# Altium footprint library 高通MSM8916 原理图+PCB Layout_QRD8916_2-4-2_half type_main board_V1.01.PcbLib: 113 footprints (part 6 of 8)
Each footprint in its own frame and in the unit in brackets; x right, y up, seen from the top. Pads: shape width x height; smd on the part's side, far side on the other; paste and mask are expansions set on the pad; w line width, h text height; cw(c..) or ccw(c..) is an arc to the next point about the centre after c.
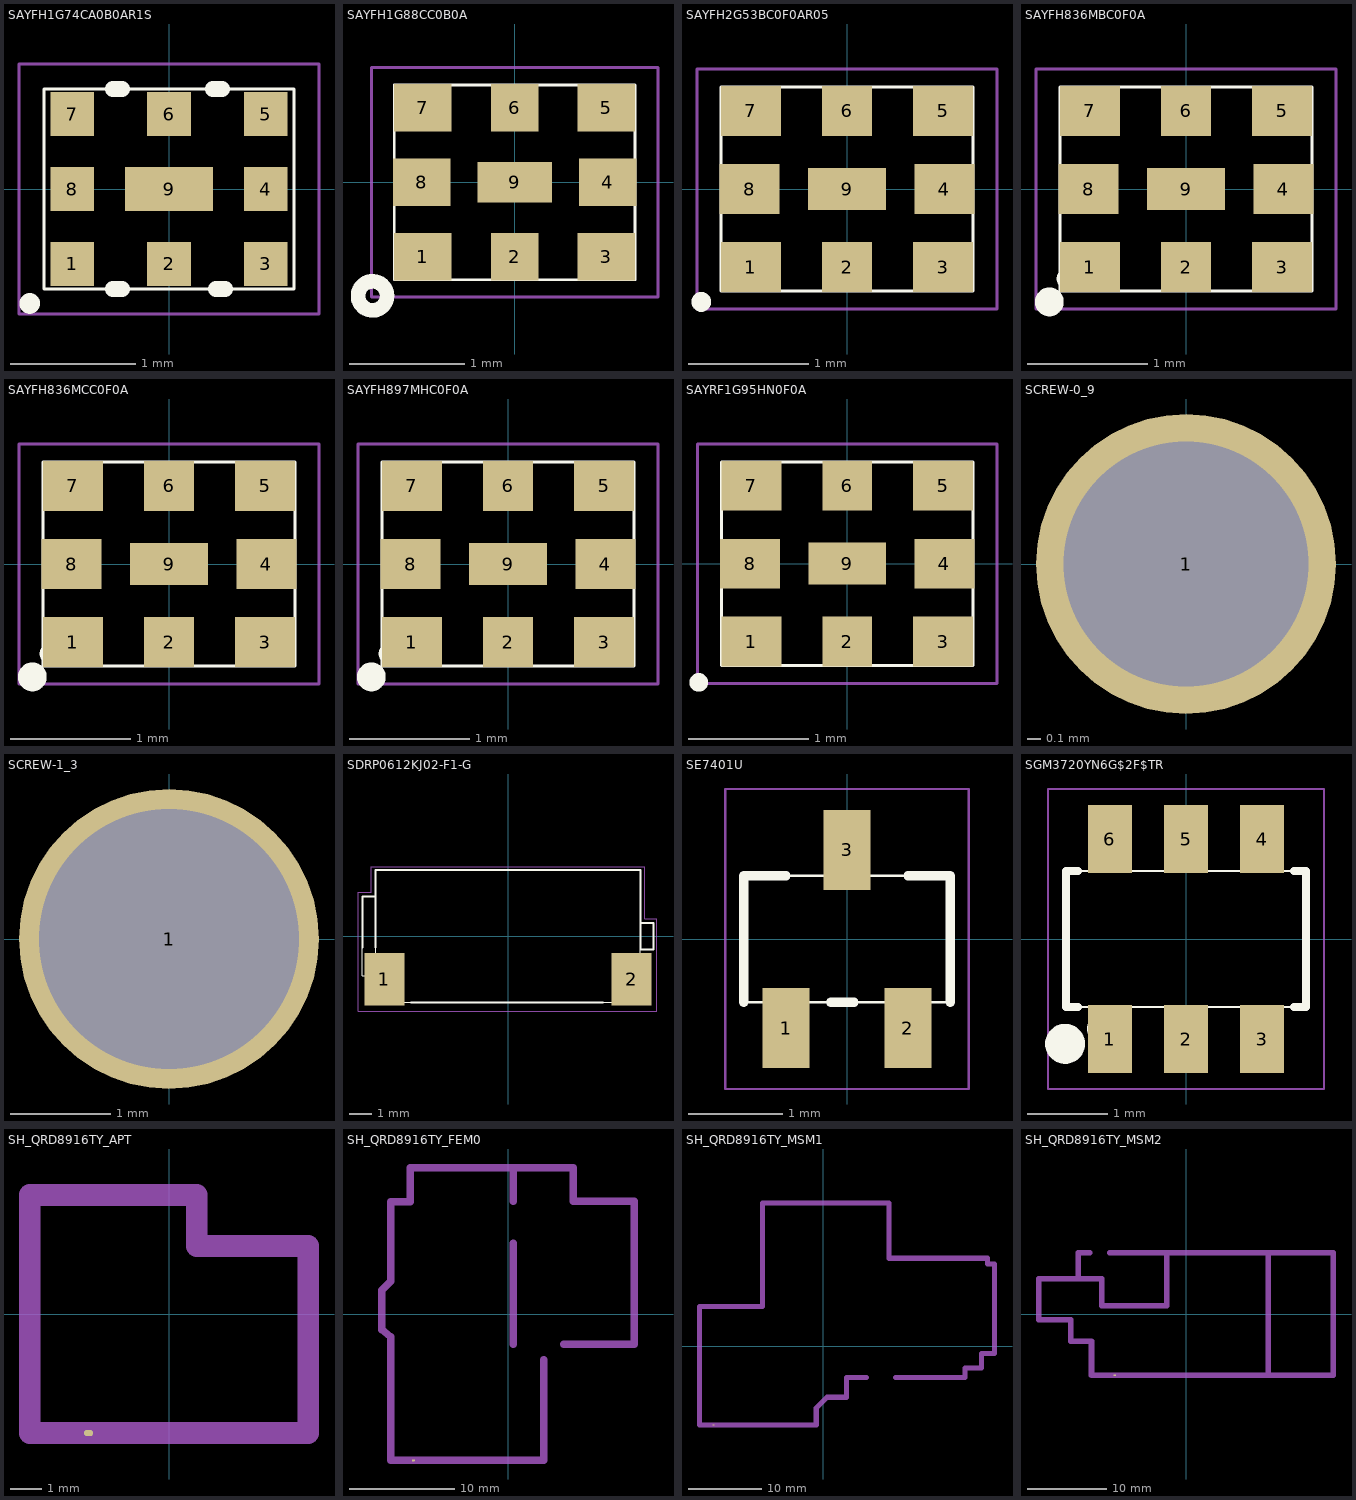
[diagram p5: the footprints below, top view; thin cyan lines are the x and y axes]

## SAYFH1G74CA0B0AR1S [mm]
height 0.6
pads (9):
  rrect0% 0.35x0.35 smd paste-0.025 mask+0.05: 1(-0.775,-0.6) 2(0,-0.6) 3(0.775,-0.6) 4(0.775,0) 5(0.775,0.6) 6(0,0.6) 7(-0.775,0.6) 8(-0.775,0)
  rect 0.7x0.35 smd mask+0.05: 9(0,0)
Top Overlay:
  circle w0.025: c-0.862,-0.672 r0.066
  circle w0.127: c-1.114,-0.916 r0.019
  lines w0.025: -1,-0.8 1,-0.8 1,0.8 -1,0.8 -1,-0.8
  lines w0.127: -0.45,-0.8 -0.375,-0.8 ; -0.45,0.8 -0.375,0.8 ; 0.35,0.8 0.425,0.8 ; 0.375,-0.8 0.45,-0.8
Top Assembly:
  lines w0.025: -1.2,-1 1.2,-1 1.2,1 -1.2,1 -1.2,-1

## SAYFH1G88CC0B0A [mm]
height 0.6
pads (9):
  rect 0.5x0.415 smd mask+0.05: 1(-0.8,-0.65) 3(0.8,-0.65) 4(0.81,0) 5(0.8,0.65) 7(-0.8,0.65) 8(-0.81,0)
  rrect0% 0.415x0.415 smd mask+0.05: 2(0,-0.65) 6(0,0.65)
  rect 0.65x0.35 smd mask+0.05: 9(0,0)
Top Overlay:
  circle w0.025: c-0.887,-0.647 r0.078
  circle w0.127: c-1.239,-0.991 r0.127
  lines w0.025: -1.05,-0.85 1.05,-0.85 1.05,0.85 -1.05,0.85 -1.05,-0.85
Top Assembly:
  lines w0.025: -1.25,-1 1.25,-1 1.25,1 -1.25,1 -1.25,-1

## SAYFH2G53BC0F0AR05 [mm]
height 0.6
pads (9):
  rect 0.5x0.415 smd mask+0.05: 1(-0.8,-0.65) 3(0.8,-0.65) 4(0.81,0) 5(0.8,0.65) 7(-0.8,0.65) 8(-0.81,0)
  rrect0% 0.415x0.415 smd mask+0.05: 2(0,-0.65) 6(0,0.65)
  rect 0.65x0.35 smd mask+0.05: 9(0,0)
Top Overlay:
  circle w0.025: c-0.812,-0.647 r0.078
  circle w0.127: c-1.214,-0.941 r0.019
  lines w0.025: -1.05,-0.85 1.05,-0.85 1.05,0.85 -1.05,0.85 -1.05,-0.85
Top Assembly:
  lines w0.025: -1.25,-1 1.25,-1 ; -1.25,-1 -1.25,1 ; -1.25,-1 1.25,-1 ; -1.25,-1 -1.25,1 ; -1.25,1 1.25,1 ; -1.25,1 1.25,1 ; 1.25,-1 1.25,1 ; 1.25,-1 1.25,1

## SAYFH836MBC0F0A [mm]
height 0.6
pads (9):
  rect 0.5x0.415 smd mask+0.05: 1(-0.8,-0.65) 3(0.8,-0.65) 4(0.81,0) 5(0.8,0.65) 7(-0.8,0.65) 8(-0.81,0)
  rrect0% 0.415x0.415 smd mask+0.05: 2(0,-0.65) 6(0,0.65)
  rect 0.65x0.35 smd mask+0.05: 9(0,0)
Top Overlay:
  circle w0.025: c-0.987,-0.747 r0.078
  circle w0.127: c-1.139,-0.941 r0.057
  lines w0.025: -1.05,-0.85 1.05,-0.85 1.05,0.85 -1.05,0.85 -1.05,-0.85
Top Assembly:
  lines w0.025: -1.25,-1 1.25,-1 1.25,1 -1.25,1 -1.25,-1
Mechanical 9:
  lines w0.025: -1.25,-1 1.25,-1 1.25,1 -1.25,1 -1.25,-1

## SAYFH836MCC0F0A [mm]
height 0.6
pads (9):
  rect 0.5x0.415 smd mask+0.05: 1(-0.8,-0.65) 3(0.8,-0.65) 4(0.81,0) 5(0.8,0.65) 7(-0.8,0.65) 8(-0.81,0)
  rrect0% 0.415x0.415 smd mask+0.05: 2(0,-0.65) 6(0,0.65)
  rect 0.65x0.35 smd mask+0.05: 9(0,0)
Top Overlay:
  circle w0.025: c-0.987,-0.747 r0.078
  circle w0.127: c-1.139,-0.941 r0.057
  lines w0.025: -1.05,-0.85 1.05,-0.85 1.05,0.85 -1.05,0.85 -1.05,-0.85
Top Assembly:
  lines w0.025: -1.25,-1 1.25,-1 1.25,1 -1.25,1 -1.25,-1
Mechanical 9:
  lines w0.025: -1.25,-1 1.25,-1 1.25,1 -1.25,1 -1.25,-1

## SAYFH897MHC0F0A [mm]
height 0.6
pads (9):
  rect 0.5x0.415 smd mask+0.05: 1(-0.8,-0.65) 3(0.8,-0.65) 4(0.81,0) 5(0.8,0.65) 7(-0.8,0.65) 8(-0.81,0)
  rrect0% 0.415x0.415 smd mask+0.05: 2(0,-0.65) 6(0,0.65)
  rect 0.65x0.35 smd mask+0.05: 9(0,0)
Top Overlay:
  circle w0.025: c-0.987,-0.747 r0.078
  circle w0.127: c-1.139,-0.941 r0.057
  lines w0.025: -1.05,-0.85 1.05,-0.85 1.05,0.85 -1.05,0.85 -1.05,-0.85
Top Assembly:
  lines w0.025: -1.25,-1 1.25,-1 1.25,1 -1.25,1 -1.25,-1
Mechanical 9:
  lines w0.025: -1.25,-1 1.25,-1 1.25,1 -1.25,1 -1.25,-1

## SAYRF1G95HN0F0A [mm]
height 0.6
pads (9):
  rect 0.5x0.415 smd mask+0.05: 1(-0.8,-0.65) 3(0.8,-0.65) 4(0.81,0) 5(0.8,0.65) 7(-0.8,0.65) 8(-0.81,0)
  rrect0% 0.415x0.415 smd mask+0.05: 2(0,-0.65) 6(0,0.65)
  rect 0.65x0.35 smd mask+0.05: 9(0,0)
Top Overlay:
  circle w0.025: c-0.887,-0.647 r0.078
  circle w0.127: c-1.239,-0.991 r0.014
  lines w0.025: -1.05,-0.85 1.05,-0.85 1.05,0.85 -1.05,0.85 -1.05,-0.85
Top Assembly:
  lines w0.025: -1.25,-1 1.25,-1 1.25,1 -1.25,1 -1.25,-1

## SCREW-0_9 [mm]
pads (1):
  round 2.2 hole 1.8 mask+0.1: 1(0,0)

## SCREW-1_3 [mm]
pads (1):
  round 3 hole 2.6 mask+0.1: 1(0,0)

## SDRP0612KJ02-F1-G [mm]
height 2.3
pads (2):
  rect 1.8x2.4 smd mask+0.05: 1(-5.6,-1.95) 2(5.6,-1.95)
Top Overlay:
  lines w0.025: -6,-1.8 -6.6,-1.8 -6.6,1.8 -6,1.8 ; 6,-0.6 6.6,-0.6 6.6,0.6 6,0.6 ; -6,-3 6,-3 6,3 -6,3 -6,-3
  lines w0.1: -6.6,-0.5 -6.6,1.8 -6,1.8 ; -6,-0.5 -6,3 6,3 6,-0.55 ; -4.4,-3 4.3,-3 ; 6,-0.6 6.6,-0.6 6.6,0.6 6,0.6
Top Assembly:
  lines w0.025: -6.8,-3.4 -6.8,2 -6.2,2 -6.2,3.15 6.2,3.15 6.2,0.8 6.75,0.8 6.75,-3.4 -6.8,-3.4

## SE7401U [mm]
height 1.1
pads (3):
  rect 0.5x0.85 smd paste-0.025 mask+0.05: 1(-0.65,-0.95) 2(0.65,-0.95) 3(0,0.95)
Top Overlay:
  lines w0.025: -1.1,-0.675 -1.1,0.675 1.1,0.675 1.1,-0.675 -1.1,-0.675
  lines w0.1: -1.1,-0.675 -1.1,0.675 -0.65,0.675 ; -0.175,-0.675 0.075,-0.675 ; 0.65,0.675 1.1,0.675 1.1,-0.675
Top Assembly:
  lines w0.025: -1.3,-1.6 -1.3,1.6 1.3,1.6 1.3,-1.6 -1.3,-1.6

## SGM3720YN6G$2F$TR [mm]
height 1.25
pads (6):
  rect 0.55x0.85 smd mask+0.05: 1(-0.95,-1.25) 2(0,-1.25) 3(0.95,-1.25) 4(0.95,1.25) 5(0,1.25) 6(-0.95,1.25)
Top Overlay:
  circle w0.3: c-1.51,-1.31 r0.1
  circle w0.025: c-0.96,-1.12 r0.264
  lines w0.025: -1.5,-0.85 -1.5,0.85 1.5,0.85 1.5,-0.85 -1.5,-0.85
  lines w0.1: -1.35,-0.85 -1.5,-0.85 -1.5,0.85 -1.35,0.85 ; 1.35,-0.85 1.5,-0.85 1.5,0.85 1.35,0.85
Top Assembly:
  lines w0.025: -1.725,-1.875 -1.725,1.875 1.725,1.875 1.725,-1.875 -1.725,-1.875

## SH_QRD8916TY_APT [mm]
pads (1):
  oval 0.3x0.2 smd: 1(-2.6,-3.85)
Top Paste:
  region: -1,-4.2 -4,-4.2 -4,-3.5 -1,-3.5
  region: 4,-4.2 1,-4.2 1,-3.5 4,-3.5
  region: 4.15,-2.1 4.15,0.9 4.85,0.9 4.85,-2.1
  region: -3.5,4.2 -0.5,4.2 -0.5,3.5 -3.5,3.5
  region: 4.05,1.85 1.05,1.85 1.05,2.55 4.05,2.55
  region: -4.85,0.504 -4.85,2.845 -4.15,2.845 -4.15,0.504
  region: -4.85,-2.845 -4.85,-0.502 -4.15,-0.502 -4.15,-2.845
Top Solder:
  region: -1,-4.2 -4,-4.2 -4,-3.5 -1,-3.5
  region: 4,-4.2 1,-4.2 1,-3.5 4,-3.5
  region: 4.15,-2.1 4.15,0.9 4.85,0.9 4.85,-2.1
  region: -3.5,4.2 -0.5,4.2 -0.5,3.5 -3.5,3.5
  region: 4.05,1.85 1.05,1.85 1.05,2.55 4.05,2.55
  region: -4.85,0.508 -4.85,2.845 -4.15,2.845 -4.15,0.508
  region: -4.85,-2.845 -4.85,-0.502 -4.15,-0.502 -4.15,-2.845
Top Assembly:
  lines w0.7: -4.5,-3.85 -4.5,3.85 0.9,3.85 0.9,2.2 4.5,2.2 4.5,-3.85 -4.5,-3.85

## SH_QRD8916TY_FEM0 [mm]
pads (1):
  oval 0.3x0.2 smd: 1(-9,-13.912)
Top Paste:
  region: -0.5,-13.563 2.5,-13.563 2.5,-14.263 -0.5,-14.263
  region: -5.5,-13.563 -2.5,-13.563 -2.5,-14.263 -5.5,-14.263
  region: -10.5,-13.563 -7.5,-13.563 -7.5,-14.263 -10.5,-14.263
  region: -11.513,-7 -11.513,-4 -10.813,-4 -10.813,-7
  region: -11.513,-12 -11.513,-9 -10.813,-9 -10.813,-12
  region: -12.363,-1.1 -12.363,1.9 -11.663,1.9 -11.663,-1.1
  region: 3.038,-7.8 3.038,-4.8 3.738,-4.8 3.738,-7.8
  region: 3.038,-12.8 3.038,-9.8 3.738,-9.8 3.738,-12.8
  region: 6.6,-2.538 9.6,-2.538 9.6,-3.238 6.6,-3.238
  region: 11.663,7.3 11.663,10.3 12.363,10.3 12.363,7.3
  region: 11.663,2.3 11.663,5.3 12.363,5.3 12.363,2.3
  region: 11.663,-2.7 11.663,0.3 12.363,0.3 12.363,-2.7
  region: 0.138,-2.5 0.138,0.5 0.838,0.5 0.838,-2.5
  region: 7.5,11.063 10.5,11.063 10.5,10.363 7.5,10.363
  region: -3.5,14.263 -0.5,14.263 -0.5,13.563 -3.5,13.563
  region: -8.5,14.263 -5.5,14.263 -5.5,13.563 -8.5,13.563
  region: 2,14.263 5,14.263 5,13.563 2,13.563
  region: -9.64,10.753 -9.64,13.147 -8.94,13.147 -8.94,10.753
  region: 0.14,10.703 0.14,13.097 0.84,13.097 0.84,10.703
  region: 5.86,11.103 5.86,13.497 6.56,13.497 6.56,11.103
  region: 0.138,2.5 0.138,6.675 0.838,6.675 0.838,2.5
  region: -11.513,4 -11.513,9 -10.813,9 -10.813,4
Top Solder:
  region: -10.5,-13.563 -7.5,-13.563 -7.5,-14.263 -10.5,-14.263
  region: -5.5,-13.563 -2.5,-13.563 -2.5,-14.263 -5.5,-14.263
  region: -0.5,-13.563 2.5,-13.563 2.5,-14.263 -0.5,-14.263
  region: -11.513,-12 -11.513,-9 -10.813,-9 -10.813,-12
  region: -11.513,-7 -11.513,-4 -10.813,-4 -10.813,-7
  region: -12.363,-1.1 -12.363,1.9 -11.663,1.9 -11.663,-1.1
  region: 3.038,-12.8 3.038,-9.8 3.738,-9.8 3.738,-12.8
  region: 3.038,-7.8 3.038,-4.8 3.738,-4.8 3.738,-7.8
  region: 6.6,-2.538 9.6,-2.538 9.6,-3.238 6.6,-3.238
  region: 11.663,-2.7 11.663,0.3 12.363,0.3 12.363,-2.7
  region: 11.663,2.3 11.663,5.3 12.363,5.3 12.363,2.3
  region: 11.663,7.3 11.663,10.3 12.363,10.3 12.363,7.3
  region: 0.138,-2.5 0.138,0.5 0.838,0.5 0.838,-2.5
  region: 7.5,11.063 10.5,11.063 10.5,10.363 7.5,10.363
  region: -8.5,14.263 -5.5,14.263 -5.5,13.563 -8.5,13.563
  region: -3.5,14.263 -0.5,14.263 -0.5,13.563 -3.5,13.563
  region: 2,14.263 5,14.263 5,13.563 2,13.563
  region: -9.64,10.753 -9.64,13.147 -8.94,13.147 -8.94,10.753
  region: 0.14,10.703 0.14,13.097 0.84,13.097 0.84,10.703
  region: 5.86,11.103 5.86,13.497 6.56,13.497 6.56,11.103
  region: 0.138,2.5 0.138,6.7 0.838,6.7 0.838,2.5
  region: -11.513,4 -11.513,9 -10.813,9 -10.813,4
Top Assembly:
  lines w0.7: 0.487,-2.887 0.487,6.713 ; 0.487,10.713 0.487,13.812 ; 3.387,-4.363 3.387,-13.912 -11.162,-13.912 -11.162,-2.163 -12.013,-1.488 -12.013,2.256 -11.162,3.106 -11.162,10.687 -9.287,10.687 -9.287,13.912 6.212,13.912 6.212,10.713 12.013,10.713 12.013,-2.887 5.312,-2.887

## SH_QRD8916TY_MSM1 [mm]
pads (1):
  oval 0.3x0.2 smd: 1(-15,-10.795)
Top Paste:
  region: -5.5,-10.45 -2.5,-10.45 -2.5,-11.15 -5.5,-11.15
  region: -10.5,-10.45 -7.5,-10.45 -7.5,-11.15 -10.5,-11.15
  region: -15.5,-10.45 -12.5,-10.45 -12.5,-11.15 -15.5,-11.15
  region: -17.25,-8.8 -17.25,-5.8 -16.55,-5.8 -16.55,-8.8
  region: -17.25,-3.8 -17.25,-0.8 -16.55,-0.8 -16.55,-3.8
  region: -17.25,1.2 -17.25,4.2 -16.55,4.2 -16.55,1.2
  region: 3.2,-3.95 6,-3.95 6,-4.65 3.2,-4.65
  region: 0.6,-6.65 3.2,-6.65 3.2,-7.35 0.6,-7.35
  region: 15,-3.95 18,-3.95 18,-4.65 15,-4.65
  region: 10,-3.95 13,-3.95 13,-4.65 10,-4.65
  region: -1.3,-10.3 -1.3,-8.7 -0.6,-8.7 -0.6,-10.3
  region: 19.65,-2.65 21.35,-2.65 21.35,-3.35 19.65,-3.35
  region: -11.8,5.75 -8.8,5.75 -8.8,5.05 -11.8,5.05
  region: -16.8,5.75 -13.8,5.75 -13.8,5.05 -16.8,5.05
  region: 18.5,12.35 21.5,12.35 21.5,11.65 18.5,11.65
  region: 13.5,12.35 16.5,12.35 16.5,11.65 13.5,11.65
  region: 9.5,12.35 11.9,12.35 11.9,11.65 9.5,11.65
  region: -6,19.9 -3,19.9 -3,19.2 -6,19.2
  region: -1,19.9 2,19.9 2,19.2 -1,19.2
  region: 4,19.9 7,19.9 7,19.2 4,19.2
  region: 8.65,15 8.65,18 9.35,18 9.35,15
  region: 23.05,3.5 23.05,6.5 23.75,6.5 23.75,3.5
  region: -8.63,14 -8.63,17.5 -7.93,17.5 -7.93,14
  region: -8.63,8.5 -8.63,12 -7.93,12 -7.93,8.5
  region: 23.05,-1.35 23.05,1.8 23.75,1.8 23.75,-1.35
  region: 23.05,8.2 23.05,11.525 23.75,11.525 23.75,8.2
Top Solder:
  region: -15.5,-10.45 -12.5,-10.45 -12.5,-11.15 -15.5,-11.15
  region: -10.5,-10.45 -7.5,-10.45 -7.5,-11.15 -10.5,-11.15
  region: -5.5,-10.45 -2.5,-10.45 -2.5,-11.15 -5.5,-11.15
  region: -17.25,-8.8 -17.25,-5.8 -16.55,-5.8 -16.55,-8.8
  region: -17.25,-3.8 -17.25,-0.8 -16.55,-0.8 -16.55,-3.8
  region: -17.25,1.2 -17.25,4.2 -16.55,4.2 -16.55,1.2
  region: 3.2,-3.95 6,-3.95 6,-4.65 3.2,-4.65
  region: 0.6,-6.65 3.2,-6.65 3.2,-7.35 0.6,-7.35
  region: 15,-3.95 18,-3.95 18,-4.65 15,-4.65
  region: 10,-3.95 13,-3.95 13,-4.65 10,-4.65
  region: -1.3,-10.3 -1.3,-8.7 -0.6,-8.7 -0.6,-10.3
  region: 19.65,-2.65 21.35,-2.65 21.35,-3.35 19.65,-3.35
  region: -16.8,5.75 -13.8,5.75 -13.8,5.05 -16.8,5.05
  region: -11.8,5.75 -8.8,5.75 -8.8,5.05 -11.8,5.05
  region: 18.5,12.35 21.5,12.35 21.5,11.65 18.5,11.65
  region: 13.5,12.35 16.5,12.35 16.5,11.65 13.5,11.65
  region: 9.5,12.35 11.9,12.35 11.9,11.65 9.5,11.65
  region: -6,19.9 -3,19.9 -3,19.2 -6,19.2
  region: -1,19.9 2,19.9 2,19.2 -1,19.2
  region: 4,19.9 7,19.9 7,19.2 4,19.2
  region: 8.65,15 8.65,18 9.35,18 9.35,15
  region: 23.05,3.5 23.05,6.5 23.75,6.5 23.75,3.5
  region: -8.63,14 -8.63,17.5 -7.93,17.5 -7.93,14
  region: -8.63,8.5 -8.63,12 -7.93,12 -7.93,8.5
  region: 23.05,-1.35 23.05,1.8 23.75,1.8 23.75,-1.35
  region: 23.05,8.2 23.05,11.525 23.75,11.525 23.75,8.2
Top Assembly:
  lines w0.7: -0.95,-10.8 -16.9,-10.8 -16.9,5.4 -8.275,5.4 -8.275,19.55 9,19.55 9,12 22.475,12 22.475,11.2 23.4,11.2 23.4,-1 21.625,-1 21.625,-3 19.4,-3 19.4,-4.3 9.9,-4.3 ; -0.95,-10.725 -0.95,-8.475 0.525,-7 3.2,-7 3.2,-4.3 5.9,-4.3

## SH_QRD8916TY_MSM2 [mm]
pads (1):
  oval 0.3x0.2 smd: 1(-9,-7.725)
Top Paste:
  region: 18.225,-6.2 18.225,-3.2 18.925,-3.2 18.925,-6.2
  region: 18.225,-1.2 18.225,1.8 18.925,1.8 18.925,-1.2
  region: 18.225,3.8 18.225,6.8 18.925,6.8 18.925,3.8
  region: 10.015,-6.5 10.015,-3.5 10.715,-3.5 10.715,-6.5
  region: 10.015,-1.5 10.015,1.5 10.715,1.5 10.715,-1.5
  region: 14.2,8.075 17.2,8.075 17.2,7.375 14.2,7.375
  region: 9.2,8.075 12.2,8.075 12.2,7.375 9.2,7.375
  region: 3.5,8.075 6.5,8.075 6.5,7.375 3.5,7.375
  region: -5.706,8.075 -3.174,8.075 -3.174,7.375 -5.706,7.375
  region: -9.626,8.075 -7.094,8.075 -7.094,7.375 -9.626,7.375
  region: 13.85,-7.375 16.85,-7.375 16.85,-8.075 13.85,-8.075
  region: 8.85,-7.375 11.85,-7.375 11.85,-8.075 8.85,-8.075
  region: 3.15,-7.375 6.15,-7.375 6.15,-8.075 3.15,-8.075
  region: -10.226,-7.375 -7.694,-7.375 -7.694,-8.075 -10.226,-8.075
  region: -12.275,-6.9 -12.275,-3.9 -11.575,-3.9 -11.575,-6.9
  region: -18.925,0.7 -18.925,3.7 -18.225,3.7 -18.225,0.7
  region: -5.506,1.375 -2.974,1.375 -2.974,0.675 -5.506,0.675
  region: -9.426,1.375 -6.894,1.375 -6.894,0.675 -9.426,0.675
  region: -17.976,4.825 -15.444,4.825 -15.444,4.125 -17.976,4.125
  region: -13.726,8.08 -12.174,8.08 -12.174,7.38 -13.726,7.38
  region: 10.015,3.56 10.015,6.5 10.715,6.5 10.715,3.56
  region: -0.18,8.075 1.64,8.075 1.64,7.375 -0.18,7.375
  region: -1.35,-7.375 1.15,-7.375 1.15,-8.075 -1.35,-8.075
  region: -4.8,-7.375 -2.7,-7.375 -2.7,-8.075 -4.8,-8.075
  region: -2.775,2.5 -2.775,6.5 -2.075,6.5 -2.075,2.5
  region: -18,-0.375 -14.5,-0.375 -14.5,-1.075 -18,-1.075
  region: -10.975,1.25 -10.975,3.65 -10.275,3.65 -10.275,1.25
Top Solder:
  region: 18.225,-6.2 18.225,-3.2 18.925,-3.2 18.925,-6.2
  region: 18.225,-1.2 18.225,1.8 18.925,1.8 18.925,-1.2
  region: 18.225,3.8 18.225,6.8 18.925,6.8 18.925,3.8
  region: 10.015,-6.5 10.015,-3.5 10.715,-3.5 10.715,-6.5
  region: 10.015,-1.5 10.015,1.5 10.715,1.5 10.715,-1.5
  region: 14.2,8.075 17.2,8.075 17.2,7.375 14.2,7.375
  region: 9.2,8.075 12.2,8.075 12.2,7.375 9.2,7.375
  region: 3.5,8.075 6.5,8.075 6.5,7.375 3.5,7.375
  region: -5.706,8.075 -3.174,8.075 -3.174,7.375 -5.706,7.375
  region: -9.626,8.075 -7.094,8.075 -7.094,7.375 -9.626,7.375
  region: 13.85,-7.375 16.85,-7.375 16.85,-8.075 13.85,-8.075
  region: 8.85,-7.375 11.85,-7.375 11.85,-8.075 8.85,-8.075
  region: 3.15,-7.375 6.15,-7.375 6.15,-8.075 3.15,-8.075
  region: -12.275,-6.9 -12.275,-3.9 -11.575,-3.9 -11.575,-6.9
  region: -18.925,0.7 -18.925,3.7 -18.225,3.7 -18.225,0.7
  region: -5.506,1.375 -2.974,1.375 -2.974,0.675 -5.506,0.675
  region: -9.426,1.375 -6.894,1.375 -6.894,0.675 -9.426,0.675
  region: -17.976,4.825 -15.444,4.825 -15.444,4.125 -17.976,4.125
  region: -13.726,8.08 -12.174,8.08 -12.174,7.38 -13.726,7.38
  region: 10.015,3.56 10.015,6.5 10.715,6.5 10.715,3.56
  region: -0.18,8.075 1.64,8.075 1.64,7.375 -0.18,7.375
  region: -1.35,-7.375 1.15,-7.375 1.15,-8.075 -1.35,-8.075
  region: -4.8,-7.375 -2.7,-7.375 -2.7,-8.075 -4.8,-8.075
  region: -2.775,2.5 -2.775,6.5 -2.075,6.5 -2.075,2.5
  region: -18,-0.375 -14.5,-0.375 -14.5,-1.075 -18,-1.075
  region: -10.975,1.25 -10.975,3.65 -10.275,3.65 -10.275,1.25
  region: -10.226,-7.375 -7.694,-7.375 -7.694,-8.075 -10.226,-8.075
Top Assembly:
  lines w0.7: -13.6,4.475 -13.6,7.725 -12.15,7.725 ; -9.625,7.725 -2.425,7.725 ; -2.425,7.725 -2.425,1.025 -10.625,1.025 -10.625,4.475 -18.575,4.475 -18.575,-0.725 -14.525,-0.725 -14.525,-3.425 -11.925,-3.425 -11.925,-7.725 10.365,-7.725 ; -2.425,7.725 10.365,7.725 ; 10.365,-7.725 18.575,-7.725 18.575,7.725 10.365,7.725 ; 10.365,-7.725 10.365,7.725